# EAGLE library part SN75240 (library crasbe)
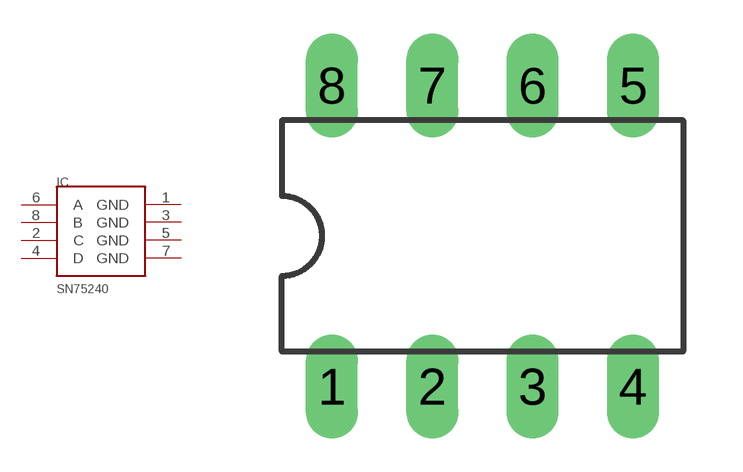
[diagram p10: symbol with the pads of DIP-8; footprint DIP-8]

Designator prefix IC

## SN75240  [DIP-8]
1  GND  pwr
2  C  in
3  GND  pwr
4  D  in
5  GND  pwr
6  A  in
7  GND  pwr
8  B  in

## Footprint DIP-8 (pad centres in mm)
drill 0.813 long: 1 -3.81,-3.81; 2 -1.27,-3.81; 3 1.27,-3.81; 4 3.81,-3.81; 5 3.81,3.81; 6 1.27,3.81; 7 -1.27,3.81; 8 -3.81,3.81